# Altium footprint library test.pcblib: 16 footprints
Each footprint in its own frame and in the unit in brackets; x right, y up, seen from the top. Pads: shape width x height; smd on the part's side, far side on the other; paste and mask are expansions set on the pad; w line width, h text height; cw(c..) or ccw(c..) is an arc to the next point about the centre after c.
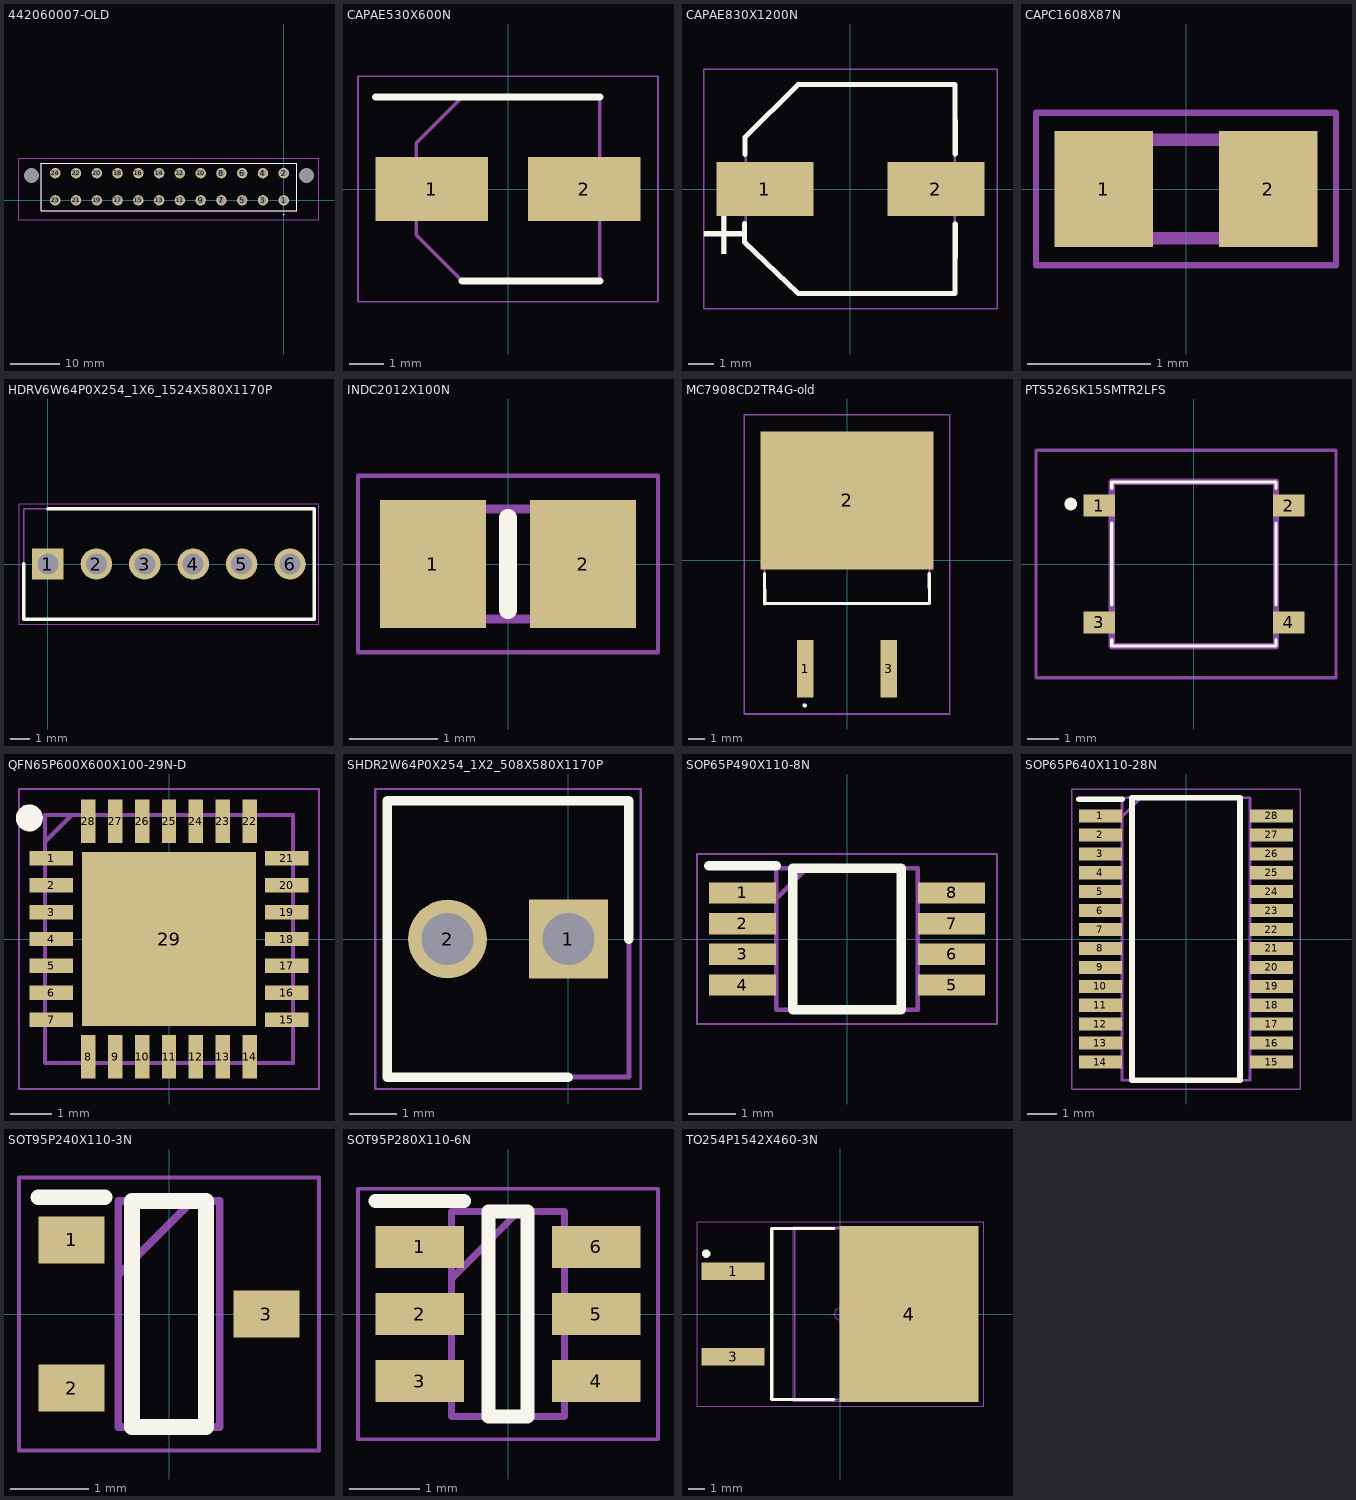
[diagram p0: the footprints below, top view; thin cyan lines are the x and y axes]

## 442060007-OLD [mm]
pads (26):
  round 2.1 hole 1.45: 1(0,0) 2(0,5.5) 3(-4.2,0) 4(-4.2,5.5) 5(-8.4,0) 6(-8.4,5.5) 7(-12.6,0) 8(-12.6,5.5) 9(-16.8,0) 10(-16.8,5.5) 11(-21,0) 12(-21,5.5) 13(-25.2,0) 14(-25.2,5.5) 15(-29.4,0) 16(-29.4,5.5) 17(-33.6,0) 18(-33.6,5.5) 19(-37.8,0) 20(-37.8,5.5) 21(-42,0) 22(-42,5.5) 23(-46.2,0) 24(-46.2,5.5)
  round 1.525 hole 3.05 unplated: MH1(-51,5.04) MH2(4.6,5.04)
Top Overlay:
  lines w0.1: -49,-2.06 2.6,-2.06 2.6,7.54 -49,7.54 -49,-2.06
  lines w0.101: -0.072,-2.91 ccw(c-0.021,-2.91) 0.03,-2.91 ccw(c-0.021,-2.91) -0.072,-2.91
Mechanical 13:
  lines w0.2: -49,-2.06 2.6,-2.06 2.6,7.54 -49,7.54 -49,-2.06
Mechanical 15:
  lines w0.1: -53.525,-3.961 7.125,-3.961 7.125,8.54 -53.525,8.54 -53.525,-3.961
3D body "44206-0007.stp": height 12.75, standoff -3.55, extent -49.15,-2.3 5.7,8.7

## CAPAE530X600N [mm]
pads (2):
  rect 3.25x1.85 smd: 1(-2.2,0) 2(2.2,0)
Top Overlay:
  lines w0.2: -3.825,2.65 2.65,2.65 ; -1.325,-2.65 2.65,-2.65
Mechanical 13:
  lines w0.1: -2.65,-1.325 -2.65,1.325 -1.325,2.65 2.65,2.65 2.65,-2.65 -1.325,-2.65 -2.65,-1.325
Mechanical 15:
  lines w0.05: -4.325,-3.25 4.325,-3.25 4.325,3.25 -4.325,3.25 -4.325,-3.25
3D body "6SVPC100MY.stp": height 6, standoff 0, extent -3.1,-2.75 3.1,2.75

## CAPAE830X1200N [mm]
pads (2):
  rect 3.85x2.15 smd: 1(-3.4,0) 2(3.4,0)
Top Overlay:
  lines w0.2: -4.216,-1.372 -4.216,-2.108 -2.075,-4.15 4.15,-4.15 4.166,-1.397 ; -4.191,1.372 -4.191,2.057 -2.083,4.14 ; -2.083,4.15 4.15,4.15 4.166,1.397
  text "+" at -6.096,-3.214 h3.17
Mechanical 13:
  lines w0.1: -4.15,-2.075 -2.075,-4.15 4.15,-4.15 4.15,4.15 -2.075,4.15 -4.15,2.075 -4.15,-2.075
Mechanical 15:
  lines w0.05: -5.825,-4.75 -5.825,4.75 5.825,4.75 5.825,-4.75 -5.825,-4.75
3D body "20SVP100M.stp": height 12, standoff 0, extent -4.6,-4.25 4.6,4.25

## CAPC1608X87N [mm]
pads (2):
  rect 0.8x0.94 smd: 1(-0.67,0) 2(0.67,0)
Mechanical 13:
  lines w0.1: -0.8,-0.4 -0.8,0.4 0.8,0.4 0.8,-0.4 -0.8,-0.4
Mechanical 15:
  lines w0.05: -1.22,-0.62 -1.22,0.62 1.22,0.62 1.22,-0.62 -1.22,-0.62
3D body "885012206074.stp": height 0.87, standoff 0, extent -0.8,-0.4 0.8,0.4

## HDRV6W64P0X254_1X6_1524X580X1170P [mm]
pads (6):
  rect 1.65x1.65 hole 1.1: 1(0,0)
  round 1.65 hole 1.1: 2(2.54,0) 3(5.08,0) 4(7.62,0) 5(10.16,0) 6(12.7,0)
Top Overlay:
  lines w0.2: -1.27,0 -1.27,-2.9 13.97,-2.9 13.97,2.9 0,2.9
Mechanical 13:
  lines w0.1: -1.27,-2.9 13.97,-2.9 13.97,2.9 -1.27,2.9 -1.27,-2.9
Mechanical 15:
  lines w0.05: -1.52,-3.15 14.22,-3.15 14.22,3.15 -1.52,3.15 -1.52,-3.15
3D body "22-27-2061.stp": height 11.7, standoff -3.56, extent -1.27,-2.9 13.97,2.9

## INDC2012X100N [mm]
pads (2):
  rect 1.2x1.45 smd: 1(-0.85,0) 2(0.85,0)
Top Overlay:
  lines w0.2: 0,-0.525 0,0.525
Mechanical 13:
  lines w0.1: -1,-0.625 1,-0.625 1,0.625 -1,0.625 -1,-0.625
Mechanical 15:
  lines w0.05: -1.7,-1 1.7,-1 1.7,1 -1.7,1 -1.7,-1
3D body "MLP2012S3R3MT0S1.stp": height 1, standoff 0, extent -1,-0.625 1,0.625

## MC7908CD2TR4G-old [mm]
pads (3):
  rect 1.016x3.504 smd: 1(-2.54,-6.566) 3(2.54,-6.566)
  rect 10.49x8.38 smd: 2(0,3.646)
Top Overlay:
  lines w0.2: -5.01,-0.8 -5,-2.629 5.01,-2.6 5,-0.8 ; -2.6,-8.8 ccw(c-2.57,-8.8) -2.54,-8.8 ccw(c-2.57,-8.8) -2.6,-8.8
Mechanical 13:
  lines w0.1: -5.01,-2.629 5.01,-2.629 5.01,6.566 -5.01,6.566 -5.01,-2.629
Mechanical 15:
  lines w0.1: -6.245,-9.319 6.245,-9.319 6.245,8.837 -6.245,8.837 -6.245,-9.319

## PCBComponent_1 [mm]

## PTS526SK15SMTR2LFS [mm]
pads (4):
  rect 1x0.7 smd: 1(-3,1.85) 2(3,1.85) 3(-3,-1.85) 4(3,-1.85)
Top Overlay:
  lines w0.1: -2.6,-2.4 -2.6,-2.6 2.6,-2.6 2.6,-2.4 ; -2.6,-1.3 -2.6,1.3 ; -2.6,2.4 -2.6,2.6 2.6,2.6 2.6,2.4 ; 2.6,-1.3 2.6,1.3
  lines w0.2: -4,1.9 cw(c-3.9,1.9) -3.8,1.9 cw(c-3.9,1.9) -4,1.9
Mechanical 13:
  lines w0.2: -2.6,-2.6 -2.6,2.6 2.6,2.6 2.6,-2.6 -2.6,-2.6
Mechanical 15:
  lines w0.1: -5,-3.6 -5,3.6 4.5,3.6 4.5,-3.6 -5,-3.6
3D body "PTS526_SK15_SMTR2_LFS.stp": height 1.55, standoff 0, extent -3.2,-2.6 3.2,2.6

## QFN65P600X600X100-29N-D [mm]
pads (29):
  rect 1.05x0.35 smd: 1(-2.85,1.95) 2(-2.85,1.3) 3(-2.85,0.65) 4(-2.85,0) 5(-2.85,-0.65) 6(-2.85,-1.3) 7(-2.85,-1.95) 15(2.85,-1.95) 16(2.85,-1.3) 17(2.85,-0.65) 18(2.85,0) 19(2.85,0.65) 20(2.85,1.3) 21(2.85,1.95)
  rect 0.35x1.05 smd: 8(-1.95,-2.85) 9(-1.3,-2.85) 10(-0.65,-2.85) 11(0,-2.85) 12(0.65,-2.85) 13(1.3,-2.85) 14(1.95,-2.85) 22(1.95,2.85) 23(1.3,2.85) 24(0.65,2.85) 25(0,2.85) 26(-0.65,2.85) 27(-1.3,2.85) 28(-1.95,2.85)
  rect 4.2x4.2 smd: 29(0,0)
Top Overlay:
  circle w0.325: c-3.374,2.925 r0.162
Mechanical 13:
  lines w0.1: -3,2.35 -2.35,3 ; -3,-3 3,-3 3,3 -3,3 -3,-3
Mechanical 15:
  lines w0.05: -3.625,-3.625 3.625,-3.625 3.625,3.625 -3.625,3.625 -3.625,-3.625
3D body "MCP23S17-E_ML.stp": height 1, standoff 0, extent -3.05,-3.05 3.05,3.05

## SHDR2W64P0X254_1X2_508X580X1170P [mm]
pads (2):
  rect 1.65x1.65 hole 1.1: 1(0,0)
  round 1.65 hole 1.1: 2(-2.54,0)
Top Overlay:
  lines w0.2: 0,-2.9 -3.81,-2.9 -3.81,2.9 1.27,2.9 1.27,0
Mechanical 13:
  lines w0.1: -3.81,-2.9 -3.81,2.9 1.27,2.9 1.27,-2.9 -3.81,-2.9
Mechanical 15:
  lines w0.05: -4.06,-3.15 -4.06,3.15 1.52,3.15 1.52,-3.15 -4.06,-3.15
3D body "22-27-2021.stp": height 11.7, standoff -3.56, extent -3.81,-2.9 1.27,2.9

## SOP65P490X110-8N [mm]
pads (8):
  rect 1.425x0.45 smd: 1(-2.212,0.975) 2(-2.212,0.325) 3(-2.212,-0.325) 4(-2.212,-0.975) 5(2.212,-0.975) 6(2.212,-0.325) 7(2.212,0.325) 8(2.212,0.975)
Top Overlay:
  lines w0.2: -2.925,1.55 -1.5,1.55 ; -1.15,-1.5 -1.15,1.5 1.15,1.5 1.15,-1.5 -1.15,-1.5
Mechanical 13:
  lines w0.1: -1.5,0.85 -0.85,1.5 ; -1.5,-1.5 -1.5,1.5 1.5,1.5 1.5,-1.5 -1.5,-1.5
Mechanical 15:
  lines w0.05: -3.175,-1.8 -3.175,1.8 3.175,1.8 3.175,-1.8 -3.175,-1.8
3D body "MAX4477AUA+.stp": height 1.1, standoff 0, extent -2.452,-1.5 2.452,1.5

## SOP65P640X110-28N [mm]
pads (28):
  rect 1.475x0.45 smd: 1(-2.938,4.225) 2(-2.938,3.575) 3(-2.938,2.925) 4(-2.938,2.275) 5(-2.938,1.625) 6(-2.938,0.975) 7(-2.938,0.325) 8(-2.938,-0.325) 9(-2.938,-0.975) 10(-2.938,-1.625) 11(-2.938,-2.275) 12(-2.938,-2.925) 13(-2.938,-3.575) 14(-2.938,-4.225) 15(2.938,-4.225) 16(2.938,-3.575) 17(2.938,-2.925) 18(2.938,-2.275) 19(2.938,-1.625) 20(2.938,-0.975) 21(2.938,-0.325) 22(2.938,0.325) 23(2.938,0.975) 24(2.938,1.625) 25(2.938,2.275) 26(2.938,2.925) 27(2.938,3.575) 28(2.938,4.225)
Top Overlay:
  lines w0.2: -3.675,4.8 -2.2,4.8 ; -1.85,-4.85 -1.85,4.85 1.85,4.85 1.85,-4.85 -1.85,-4.85
Mechanical 13:
  lines w0.1: -2.2,4.2 -1.55,4.85 ; -2.2,-4.85 -2.2,4.85 2.2,4.85 2.2,-4.85 -2.2,-4.85
Mechanical 15:
  lines w0.05: -3.925,-5.15 -3.925,5.15 3.925,5.15 3.925,-5.15 -3.925,-5.15
3D body "MAX1968EUI+T.stp": height 1.1, standoff 0, extent -3.2,-4.85 3.2,4.85

## SOT95P240X110-3N [mm]
pads (3):
  rect 0.85x0.6 smd: 1(-1.25,0.95) 2(-1.25,-0.95) 3(1.25,0)
Top Overlay:
  lines w0.2: -1.675,1.5 -0.825,1.5 ; -0.475,-1.45 0.475,-1.45 0.475,1.45 -0.475,1.45 -0.475,-1.45
Mechanical 13:
  lines w0.1: -0.65,0.5 0.3,1.45 ; -0.65,-1.45 0.65,-1.45 0.65,1.45 -0.65,1.45 -0.65,-1.45
Mechanical 15:
  lines w0.05: -1.925,-1.75 1.925,-1.75 1.925,1.75 -1.925,1.75 -1.925,-1.75
3D body "MMBT_3906_LT1.stp": height 1.1, standoff 0, extent -1.2,-1.45 1.2,1.45

## SOT95P280X110-6N [mm]
pads (6):
  rect 1.25x0.6 smd: 1(-1.25,0.95) 2(-1.25,0) 3(-1.25,-0.95) 4(1.25,-0.95) 5(1.25,0) 6(1.25,0.95)
Top Overlay:
  lines w0.2: -1.875,1.6 -0.625,1.6 ; -0.275,-1.45 0.275,-1.45 0.275,1.45 -0.275,1.45 -0.275,-1.45
Mechanical 13:
  lines w0.1: -0.8,0.5 0.15,1.45 ; -0.8,-1.45 0.8,-1.45 0.8,1.45 -0.8,1.45 -0.8,-1.45
Mechanical 15:
  lines w0.05: -2.125,-1.775 2.125,-1.775 2.125,1.775 -2.125,1.775 -2.125,-1.775
3D body "DAC121C081CIMK_NOPB.stp": height 0.97, standoff 0, extent -1.4,-1.45 1.4,1.45

## TO254P1542X460-3N [mm]
pads (3):
  rect 3.75x1.05 smd: 1(-6.4,2.54) 3(-6.4,-2.54)
  rect 8.3x10.5 smd: 4(4.1,0)
Top Overlay:
  circle w0.25: c-8,3.6 r0.125
  lines w0.2: -0.4,-5.1 -4.1,-5.1 -4.1,5.1 -0.4,5.1
Mechanical 13:
  lines w0.1: 6.442,-5.1 6.861,-5.1 7.712,-4.157 7.712,4.157 6.861,5.1 6.442,5.1 ; 6.442,-5.1 6.442,5.1 ; 6.442,-5.1 -2.708,-5.1 -2.708,5.1 6.442,5.1
Mechanical 15:
  circle w0.05: c0,0 r0.35
  lines w0.001: -2.808,-5.2 -2.808,5.2 6.542,5.2 6.542,-5.2 -2.808,-5.2
  lines w0.05: -0.5,0 0.5,0 ; 0,-0.5 0,0.5 ; -8.55,-5.5 -8.55,5.5 8.55,5.5 8.55,-5.5 -8.55,-5.5